# EAGLE library part ANTAP28 (library D52Q)
N548M4CB and ANTAP28 dynastream devices
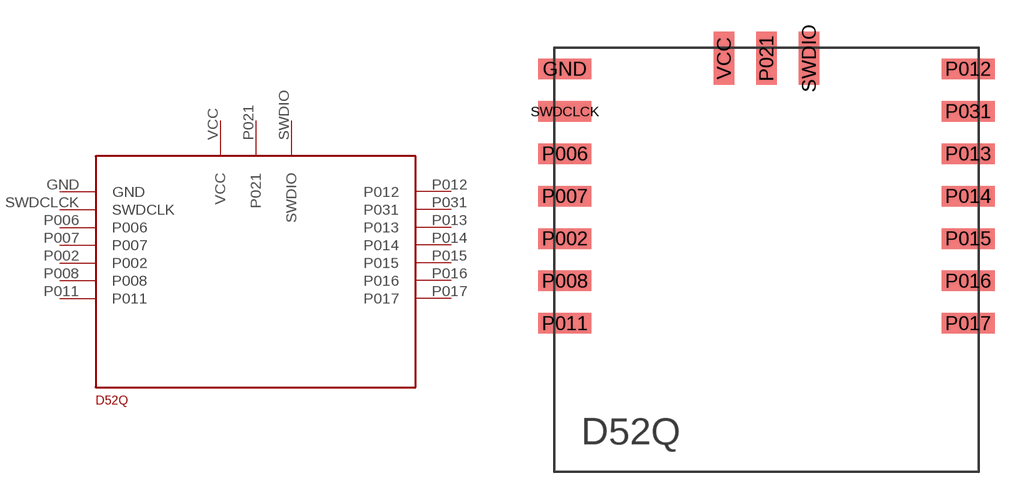
[diagram p0: symbol with the pads of ANTAP; footprint ANTAP]

Designator prefix -

## ANTAP28  [ANTAP]
GND  GND  pwr
P002  P002
P006  P006
P007  P007
P008  P008
P011  P011
P012  P012
P013  P013
P014  P014
P015  P015
P016  P016  in
P017  P017  out
P021  P021
P031  P031
SWDCLCK  SWDCLK
SWDIO  SWDIO  pwr
VCC  VCC  pwr

## Footprint ANTAP (pad centres in mm)
smd 2.5 x 0.965: GND 0.5,19; P002 0.5,11; P006 0.5,15; P007 0.5,13; P008 0.5,9; P011 0.5,7; P012 19.5,19; P013 19.5,15; P014 19.5,13; P015 19.5,11; P016 19.5,9; P017 19.5,7; P031 19.5,17; SWDCLCK 0.5,17
smd 0.965 x 2.5: P021 10,19.5; SWDIO 12,19.5; VCC 8,19.5